# EAGLE library part MOUDLE-IOT-AI7688H (library Seeed-OPL-2017-01-Sensor-camilo)
317060162
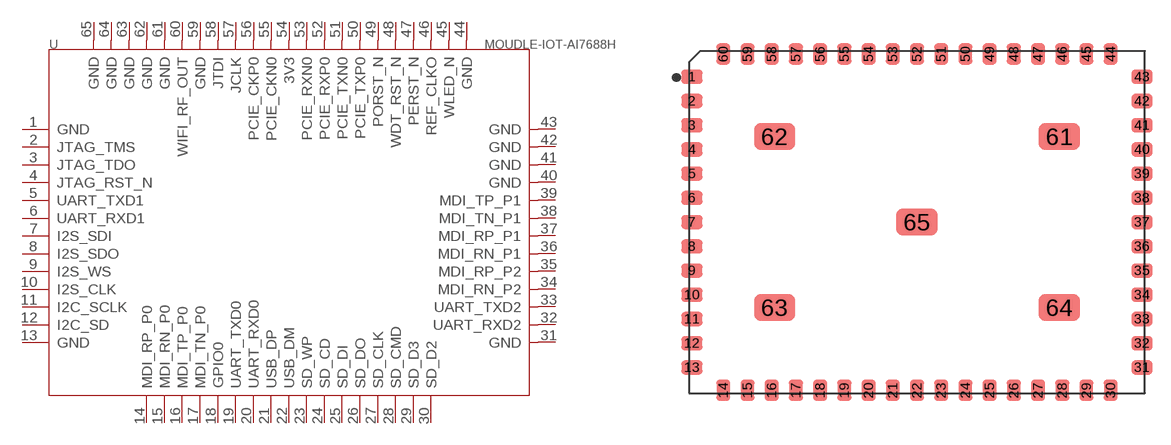
[diagram p7: symbol with the pads of LGA65-1.7-24X32X1.8MM; footprint LGA65-1.7-24X32X1.8MM]

Designator prefix U

## MOUDLE-IOT-AI7688H  [LGA65-1.7-24X32X1.8MM]
1  GND
2  JTAG_TMS
3  JTAG_TDO
4  JTAG_RST_N
5  UART_TXD1
6  UART_RXD1
7  I2S_SDI
8  I2S_SDO
9  I2S_WS
10  I2S_CLK
11  I2C_SCLK
12  I2C_SD
13  GND
14  MDI_RP_P0
15  MDI_RN_P0
16  MDI_TP_P0
17  MDI_TN_P0
18  GPIO0
19  UART_TXD0
20  UART_RXD0
21  USB_DP
22  USB_DM
23  SD_WP
24  SD_CD
25  SD_DI
26  SD_DO
27  SD_CLK
28  SD_CMD
29  SD_D3
30  SD_D2
31  GND
32  UART_RXD2
33  UART_TXD2
34  MDI_RN_P2
35  MDI_RP_P2
36  MDI_RN_P1
37  MDI_RP_P1
38  MDI_TN_P1
39  MDI_TP_P1
40  GND
41  GND
42  GND
43  GND
44  GND
45  WLED_N
46  REF_CLKO
47  PERST_N
48  WDT_RST_N
49  PORST_N
50  PCIE_TXP0
51  PCIE_TXN0
52  PCIE_RXP0
53  PCIE_RXN0
54  3V3
55  PCIE_CKN0
56  PCIE_CKP0
57  JCLK
58  JTDI
59  GND
60  WIFI_RF_OUT
61  GND
62  GND
63  GND
64  GND
65  GND

## Footprint LGA65-1.7-24X32X1.8MM (pad centres in mm)
smd 1.5 x 1: 1 -15.8,10.2; 2 -15.8,8.5; 3 -15.8,6.8; 4 -15.8,5.1; 5 -15.8,3.4; 6 -15.8,1.7; 7 -15.8,0; 8 -15.8,-1.7; 9 -15.8,-3.4; 10 -15.8,-5.1; 11 -15.8,-6.8; 12 -15.8,-8.5; 13 -15.8,-10.2; 31 15.8,-10.2; 32 15.8,-8.5; 33 15.8,-6.8; 34 15.8,-5.1; 35 15.8,-3.4; 36 15.8,-1.7; 37 15.8,0; 38 15.8,1.7; 39 15.8,3.4; 40 15.8,5.1; 41 15.8,6.8; 42 15.8,8.5; 43 15.8,10.2
smd 1 x 1.5: 14 -13.6,-11.8; 15 -11.9,-11.8; 16 -10.2,-11.8; 17 -8.5,-11.8; 18 -6.8,-11.8; 19 -5.1,-11.8; 20 -3.4,-11.8; 21 -1.7,-11.8; 22 0,-11.8; 23 1.7,-11.8; 24 3.4,-11.8; 25 5.1,-11.8; 26 6.8,-11.8; 27 8.5,-11.8; 28 10.2,-11.8; 29 11.9,-11.8; 30 13.6,-11.8; 44 13.6,11.8; 45 11.9,11.8; 46 10.2,11.8; 47 8.5,11.8; 48 6.8,11.8; 49 5.1,11.8; 50 3.4,11.8; 51 1.7,11.8; 52 0,11.8; 53 -1.7,11.8; 54 -3.4,11.8; 55 -5.1,11.8; 56 -6.8,11.8; 57 -8.5,11.8; 58 -10.2,11.8; 59 -11.9,11.8; 60 -13.6,11.8
smd 2.9 x 1.9: 61 10,6; 62 -10,6; 63 -10,-6; 64 10,-6; 65 0,0